# EAGLE library part M80-5100642 (library connectors)
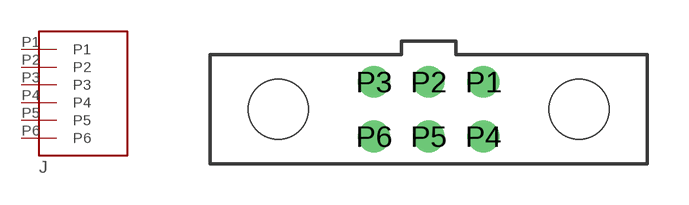
[diagram p0: symbol with the pads of M80-5100642; footprint M80-5100642]

Designator prefix J

## M80-5100642  [M80-5100642]
P1  P1
P2  P2
P3  P3
P4  P4
P5  P5
P6  P6

## Footprint M80-5100642 (pad centres in mm)
drill 0.65: P1 2,1; P2 0,1; P3 -2,1; P4 2,-1; P5 0,-1; P6 -2,-1
hole 2.2 at -5.5,0
hole 2.2 at 5.5,0